# Altium schematic symbol library Resonators.SchLib: 1 symbol
Pins are listed as number, name and electrical type; pins without a type are passive.

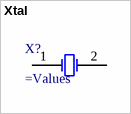
[diagram p0: symbol Xtal]

## Xtal
designator X?
кварцевый резонатор
pins: 1 OSC1, 2 OSC2